# Altium integrated library OKI Microcontroller 32-Bit ARM.IntLib: 27 symbols (part 2 of 2)
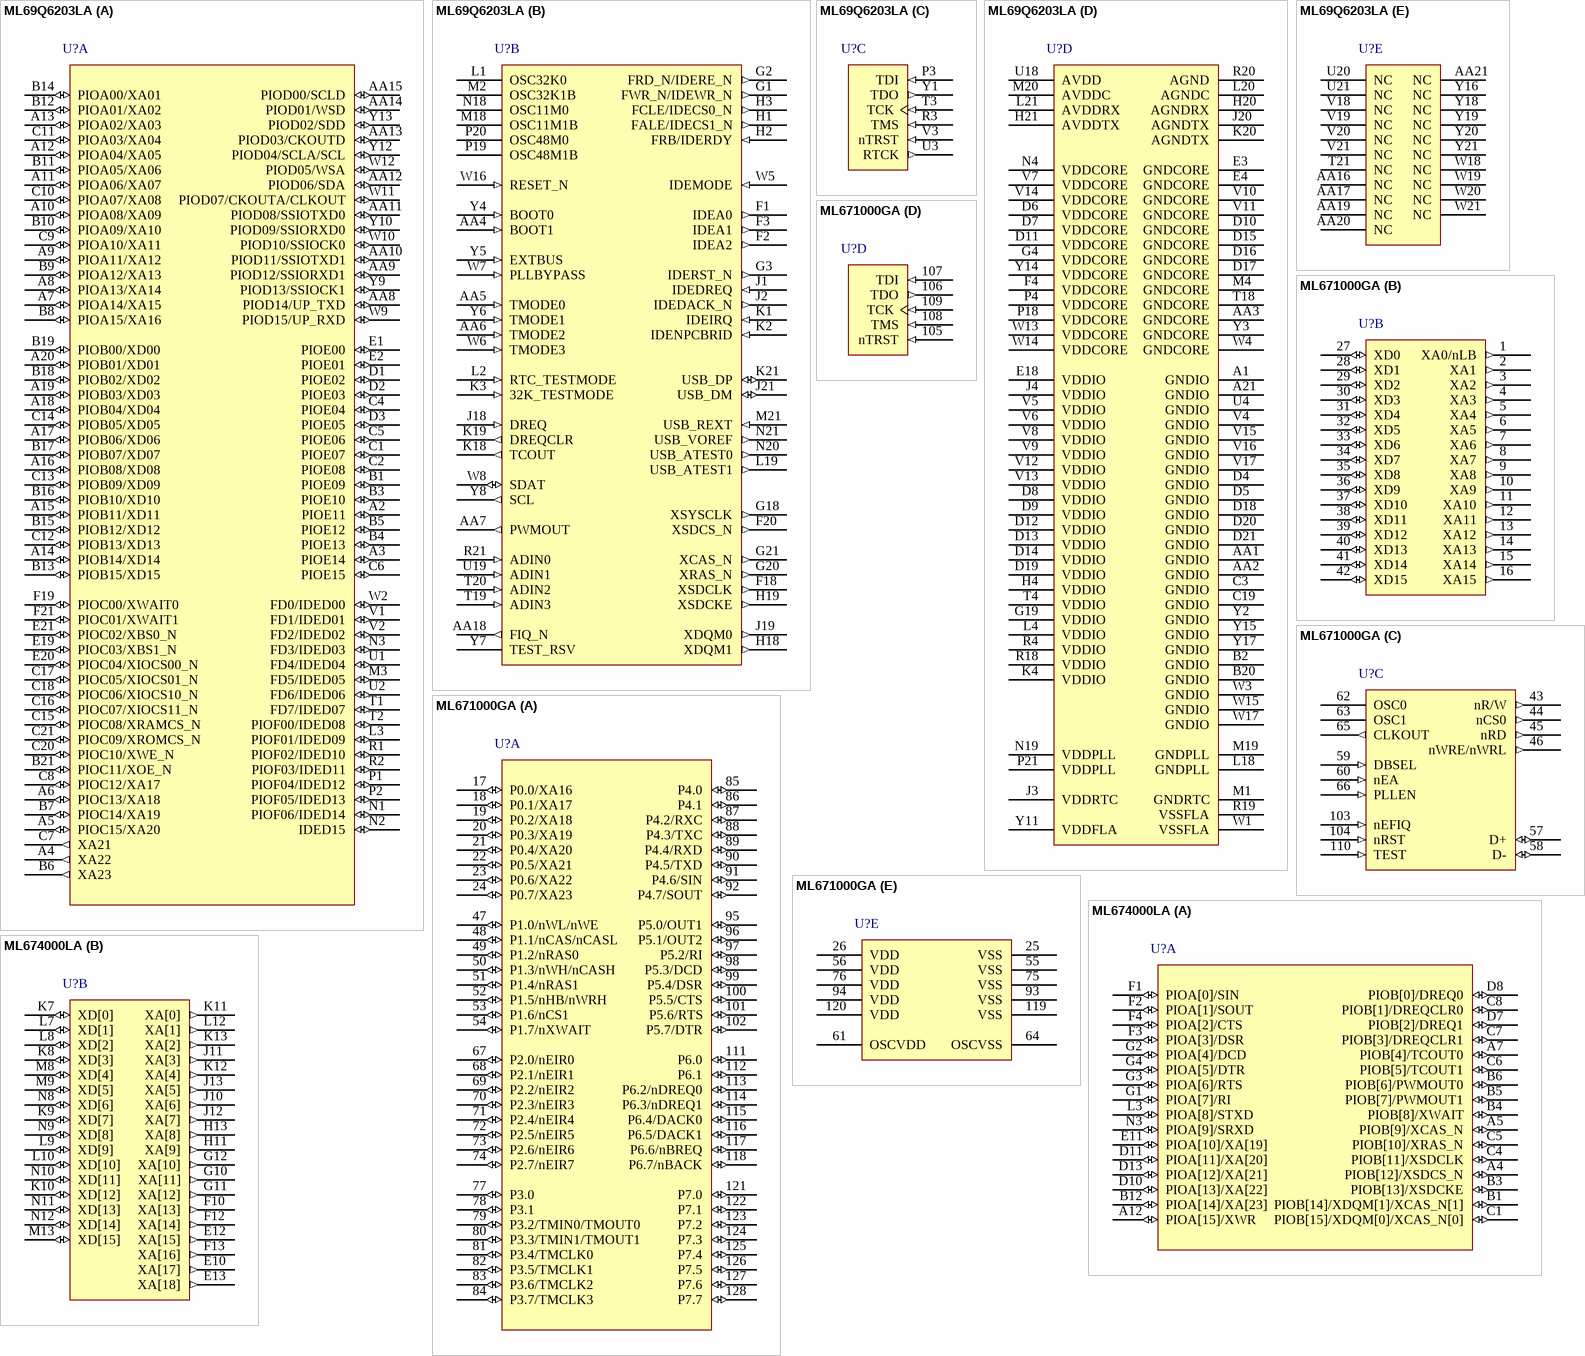
[diagram p10: symbols ML69Q6203LA to ML674000LA]

## ML69Q6203LA
designator U?
ARM7TDMI 32-Bit Microcontroller, 512KB Flash ROM, 272-pin LFBGA; Published: 12-Dec-2006; DatasheetVersion: rev1.1, Jan-2005; PackageVersion: rev1, May-2004; PackageReference: P-LFBGA272-1515-0.65-MC-1; Publisher: Altium Limited; PackageDescription: 272-Ball Ball Grid Array 0.65 mm Pitch; ComponentLink1Description: Manufacturer Link; ComponentLink1URL: http://www2.okisemi.com/; ComponentLink2Description: Datasheet; ComponentLink2URL: http://www2.okisemi.com/site/datasheets/ml696200ds
footprint P-LFBGA272-1515-0.65-MC-1 (BGA, 272-Leads, Body 15x15mm, Pitch 0.65mm)
part A pins: A2 PIOE11 (io), A3 PIOE14 (io), A4 XA22 (out), A5 PIOC15/XA20 (io), A6 PIOC13/XA18 (io), A7 PIOA14/XA15 (io), A8 PIOA13/XA14 (io), A9 PIOA11/XA12 (io), A10 PIOA08/XA09 (io), A11 PIOA06/XA07 (io), A12 PIOA04/XA05 (io), A13 PIOA02/XA03 (io), A14 PIOB14/XD14 (io), A15 PIOB11/XD11 (io), A16 PIOB08/XD08 (io), A17 PIOB06/XD06 (io), A18 PIOB04/XD04 (io), A19 PIOB03/XD03 (io), A20 PIOB01/XD01 (io), AA8 PIOD14/UP_TXD (io), AA9 PIOD12/SSIORXD1 (io), AA10 PIOD11/SSIOTXD1 (io), AA11 PIOD08/SSIOTXD0 (io), AA12 PIOD06/SDA (io), AA13 PIOD03/CKOUTD (io), AA14 PIOD01/WSD (io), AA15 PIOD00/SCLD (io), B1 PIOE09 (io), B3 PIOE10 (io), B4 PIOE13 (io), B5 PIOE12 (io), B6 XA23 (out), B7 PIOC14/XA19 (io), B8 PIOA15/XA16 (io), B9 PIOA12/XA13 (io), B10 PIOA09/XA10 (io), B11 PIOA05/XA06 (io), B12 PIOA01/XA02 (io), B13 PIOB15/XD15 (io), B14 PIOA00/XA01 (io), B15 PIOB12/XD12 (io), B16 PIOB10/XD10 (io), B17 PIOB07/XD07 (io), B18 PIOB02/XD02 (io), B19 PIOB00/XD00 (io), B21 PIOC11/XOE_N (io), C1 PIOE07 (io), C2 PIOE08 (io), C4 PIOE04 (io), C5 PIOE06 (io), C6 PIOE15 (io), C7 XA21 (out), C8 PIOC12/XA17 (io), C9 PIOA10/XA11 (io), C10 PIOA07/XA08 (io), C11 PIOA03/XA04 (io), C12 PIOB13/XD13 (io), C13 PIOB09/XD09 (io), C14 PIOB05/XD05 (io), C15 PIOC08/XRAMCS_N (io), C16 PIOC07/XIOCS11_N (io), C17 PIOC05/XIOCS01_N (io), C18 PIOC06/XIOCS10_N (io), C20 PIOC10/XWE_N (io), C21 PIOC09/XROMCS_N (io), D1 PIOE02 (io), D2 PIOE03 (io), D3 PIOE05 (io), E1 PIOE00 (io), E2 PIOE01 (io), E19 PIOC03/XBS1_N (io), E20 PIOC04/XIOCS00_N (io), E21 PIOC02/XBS0_N (io), F19 PIOC00/XWAIT0 (io), F21 PIOC01/XWAIT1 (io), L3 PIOF01/IDED09 (io), M3 FD5/IDED05 (io) "NAND Flash data", N1 PIOF06/IDED14 (io), N2 IDED15 (io), N3 FD3/IDED03 (io) "NAND Flash data", P1 PIOF04/IDED12 (io), P2 PIOF05/IDED13 (io), R1 PIOF02/IDED10 (io), R2 PIOF03/IDED11 (io), T1 FD7/IDED07 (io) "NAND Flash data", T2 PIOF00/IDED08 (io), U1 FD4/IDED04 (io) "NAND Flash data", U2 FD6/IDED06 (io) "NAND Flash data", V1 FD1/IDED01 (io) "NAND Flash data", V2 FD2/IDED02 (io) "NAND Flash data", W2 FD0/IDED00 (io) "NAND Flash data", W9 PIOD15/UP_RXD (io), W10 PIOD10/SSIOCK0 (io), W11 PIOD07/CKOUTA/CLKOUT (io), W12 PIOD05/WSA (io), Y9 PIOD13/SSIOCK1 (io), Y10 PIOD09/SSIORXD0 (io), Y12 PIOD04/SCLA/SCL (io), Y13 PIOD02/SDD (io)
part B pins: AA4 BOOT1 (in), AA5 TMODE0 (in), AA6 TMODE2 (in), AA7 PWMOUT (out), AA18 FIQ_N (out) "fast int", F1 IDEA0 (out) "ide controller", F2 IDEA2 (out) "ide controller", F3 IDEA1 (out) "ide controller", F18 XSDCLK (out), F20 XSDCS_N (out), G1 FWR_N/IDEWR_N (out) "nand flash", G2 FRD_N/IDERE_N (out) "nand flash", G3 IDERST_N (out) "ide controller", G18 XSYSCLK (out), G20 XRAS_N (out), G21 XCAS_N (out), H1 FALE/IDECS1_N (out) "nand flash", H2 FRB/IDERDY (in) "NAND Flash ready/busy (1 = ready, 0 = busy)", H3 FCLE/IDECS0_N (out) "nand flash", H18 XDQM1 (out), H19 XSDCKE (out), J1 IDEDREQ (in), J2 IDEDACK_N (out) "ide controller", J18 DREQ (in) "DMA request signal, used if DREEQ type is set by DMA controller", J19 XDQM0 (out), J21 USB_DM (io), K1 IDEIRQ (in), K2 IDENPCBRID (in), K3 32K_TESTMODE (in) "This pin switches the test mode pin of a 32-kHz oscillator circuit.", K18 TCOUT (out) "dma control", K19 DREQCLR (out) "DREQ signal clear request./ dma control", K21 USB_DP (io), L1 OSC32K0, L2 RTC_TESTMODE (in) "This pin switches the Scan mode pin of the RTC section.", L19 USB_ATEST1 (out), M2 OSC32K1B, M18 OSC11M1B, M21 USB_REXT (in), N18 OSC11M0, N20 USB_ATEST0 (out), N21 USB_VOREF (out), P19 OSC48M1B, P20 OSC48M0, R21 ADIN0 (in) "ADC input (CH3/2/1/0)", T19 ADIN3 (in) "ADC input (CH3/2/1/0)", T20 ADIN2 (in) "ADC input (CH3/2/1/0)", U19 ADIN1 (in) "ADC input (CH3/2/1/0)", W5 IDEMODE (in), W6 TMODE3 (in), W7 PLLBYPASS (in), W8 SDAT (io) "I2C transmit/receive data", W16 RESET_N (in), Y4 BOOT0 (in), Y5 EXTBUS (in) "switch between bus/gpio", Y6 TMODE1 (in), Y7 TEST_RSV, Y8 SCL (out) "I2C clock output"
part C pins: P3 TDI (in), R3 TMS (in), T3 TCK (in), U3 RTCK (out), V3 nTRST (in), Y1 TDO (out)
part D pins: A1 GNDIO (power), A21 GNDIO (power), AA1 GNDIO (power), AA2 GNDIO (power), AA3 GNDCORE (power), B2 GNDIO (power), B20 GNDIO (power), C3 GNDIO (power), C19 GNDIO (power), D4 GNDIO (power), D5 GNDIO (power), D6 VDDCORE (power), D7 VDDCORE (power), D8 VDDIO (power), D9 VDDIO (power), D10 GNDCORE (power), D11 VDDCORE (power), D12 VDDIO (power), D13 VDDIO (power), D14 VDDIO (power), D15 GNDCORE (power), D16 GNDCORE (power), D17 GNDCORE (power), D18 GNDIO (power), D19 VDDIO (power), D20 GNDIO (power), D21 GNDIO (power), E3 GNDCORE (power), E4 GNDCORE (power), E18 VDDIO (power), F4 VDDCORE (power), G4 VDDCORE (power), G19 VDDIO (power), H4 VDDIO (power), H20 AGNDRX (power), H21 AVDDTX (power), J3 VDDRTC (power), J4 VDDIO (power), J20 AGNDTX (power), K4 VDDIO (power), K20 AGNDTX (power), L4 VDDIO (power), L18 GNDPLL (power), L20 AGNDC (power), L21 AVDDRX (power), M1 GNDRTC (power), M4 GNDCORE (power), M19 GNDPLL (power), M20 AVDDC (power), N4 VDDCORE (power), N19 VDDPLL (power), P4 VDDCORE (power), P18 VDDCORE (power), P21 VDDPLL (power), R4 VDDIO (power), R18 VDDIO (power), R19 VSSFLA (power), R20 AGND (power), T4 VDDIO (power), T18 GNDCORE (power), U4 GNDIO (power), U18 AVDD (power), V4 GNDIO (power), V5 VDDIO (power), V6 VDDIO (power), V7 VDDCORE (power), V8 VDDIO (power), V9 VDDIO (power), V10 GNDCORE (power), V11 GNDCORE (power), V12 VDDIO (power), V13 VDDIO (power), V14 VDDCORE (power), V15 GNDIO (power), V16 GNDIO (power), V17 GNDIO (power), W1 VSSFLA (power), W3 GNDIO (power), W4 GNDCORE (power), W13 VDDCORE (power), W14 VDDCORE (power), W15 GNDIO (power), W17 GNDIO (power), Y2 GNDIO (power), Y3 GNDCORE (power), Y11 VDDFLA (power), Y14 VDDCORE (power), Y15 GNDIO (power), Y17 GNDIO (power)
part E pins: AA16 NC, AA17 NC, AA19 NC, AA20 NC, AA21 NC, T21 NC, U20 NC, U21 NC, V18 NC, V19 NC, V20 NC, V21 NC, W18 NC, W19 NC, W20 NC, W21 NC, Y16 NC, Y18 NC, Y19 NC, Y20 NC, Y21 NC

## ML671000GA
designator U?
ARM7TDMI 32-Bit Microcontroller, 4KB RAM, 128-Lead QFP; Published: 12-Dec-2006; DatasheetVersion: Jul-2001; PackageVersion: rev4, Nov-1996; PackageReference: QFP128-P-1420-0.50-K; Publisher: Altium Limited; PackageDescription: 128-Pin Shrink Quad Flat Pack Rectangular 0.5 mm Pitch; Code_IPC: SQFP50P1600X2200-128; ComponentLink1Description: Manufacturer Link; ComponentLink1URL: http://www2.okisemi.com/; ComponentLink2Description: Datasheet; ComponentLink2URL: http://www2.okisemi.com/site/datasheets/ml671000.pdf
footprint QFP128-P-1420-0.50-K_N (Shrink QFP, 128-Leads, Body 20x14 mm, Pitch 0.5mm, IPC Medium Density)
footprint QFP128-P-1420-0.50-K_L (Shrink QFP, 128-Leads, Body 20x14 mm, Pitch 0.5mm, IPC High Density)
footprint QFP128-P-1420-0.50-K_M (Shrink QFP, 128-Leads, Body 20x14 mm, Pitch 0.5mm, IPC Low Density)
part A pins: 17 P0.0/XA16 (io), 18 P0.1/XA17 (io), 19 P0.2/XA18 (io), 20 P0.3/XA19 (io), 21 P0.4/XA20 (io), 22 P0.5/XA21 (io), 23 P0.6/XA22 (io), 24 P0.7/XA23 (io), 47 P1.0/nWL/nWE (io), 48 P1.1/nCAS/nCASL (io), 49 P1.2/nRAS0 (io), 50 P1.3/nWH/nCASH (io), 51 P1.4/nRAS1 (io), 52 P1.5/nHB/nWRH (io), 53 P1.6/nCS1 (io), 54 P1.7/nXWAIT (io), 67 P2.0/nEIR0 (io), 68 P2.1/nEIR1 (io), 69 P2.2/nEIR2 (io), 70 P2.3/nEIR3 (io), 71 P2.4/nEIR4 (io), 72 P2.5/nEIR5 (io), 73 P2.6/nEIR6 (io), 74 P2.7/nEIR7 (io), 77 P3.0 (io), 78 P3.1 (io), 79 P3.2/TMIN0/TMOUT0 (io), 80 P3.3/TMIN1/TMOUT1 (io), 81 P3.4/TMCLK0 (io), 82 P3.5/TMCLK1 (io), 83 P3.6/TMCLK2 (io), 84 P3.7/TMCLK3 (io), 85 P4.0 (io), 86 P4.1 (io), 87 P4.2/RXC (io), 88 P4.3/TXC (io), 89 P4.4/RXD (io), 90 P4.5/TXD (io), 91 P4.6/SIN (io), 92 P4.7/SOUT (io), 95 P5.0/OUT1 (io), 96 P5.1/OUT2 (io), 97 P5.2/RI (io), 98 P5.3/DCD (io), 99 P5.4/DSR (io), 100 P5.5/CTS (io), 101 P5.6/RTS (io), 102 P5.7/DTR (io), 111 P6.0 (io), 112 P6.1 (io), 113 P6.2/nDREQ0 (io), 114 P6.3/nDREQ1 (io), 115 P6.4/DACK0 (io), 116 P6.5/DACK1 (io), 117 P6.6/nBREQ (io), 118 P6.7/nBACK (io), 121 P7.0 (io), 122 P7.1 (io), 123 P7.2 (io), 124 P7.3 (io), 125 P7.4 (io), 126 P7.5 (io), 127 P7.6 (io), 128 P7.7 (io)
part B pins: 1 XA0/nLB (out), 2 XA1 (out), 3 XA2 (out), 4 XA3 (out), 5 XA4 (out), 6 XA5 (out), 7 XA6 (out), 8 XA7 (out), 9 XA8 (out), 10 XA9 (out), 11 XA10 (out), 12 XA11 (out), 13 XA12 (out), 14 XA13 (out), 15 XA14 (out), 16 XA15 (out), 27 XD0 (io), 28 XD1 (io), 29 XD2 (io), 30 XD3 (io), 31 XD4 (io), 32 XD5 (io), 33 XD6 (io), 34 XD7 (io), 35 XD8 (io), 36 XD9 (io), 37 XD10 (io), 38 XD11 (io), 39 XD12 (io), 40 XD13 (io), 41 XD14 (io), 42 XD15 (io)
part C pins: 43 nR/W (out), 44 nCS0 (out), 45 nRD (out), 46 nWRE/nWRL (out), 57 D+ (io), 58 D- (io), 59 DBSEL (in), 60 nEA (in), 62 OSC0, 63 OSC1, 65 CLKOUT (out), 66 PLLEN (in), 103 nEFIQ (in), 104 nRST (in), 110 TEST (in)
part D pins: 105 nTRST (in), 106 TDO (out), 107 TDI (in), 108 TMS (in), 109 TCK (in)
part E pins: 25 VSS (power), 26 VDD (power), 55 VSS (power), 56 VDD (power), 61 OSCVDD (power), 64 OSCVSS (power), 75 VSS (power), 76 VDD (power), 93 VSS (power), 94 VDD (power), 119 VSS (power), 120 VDD (power)

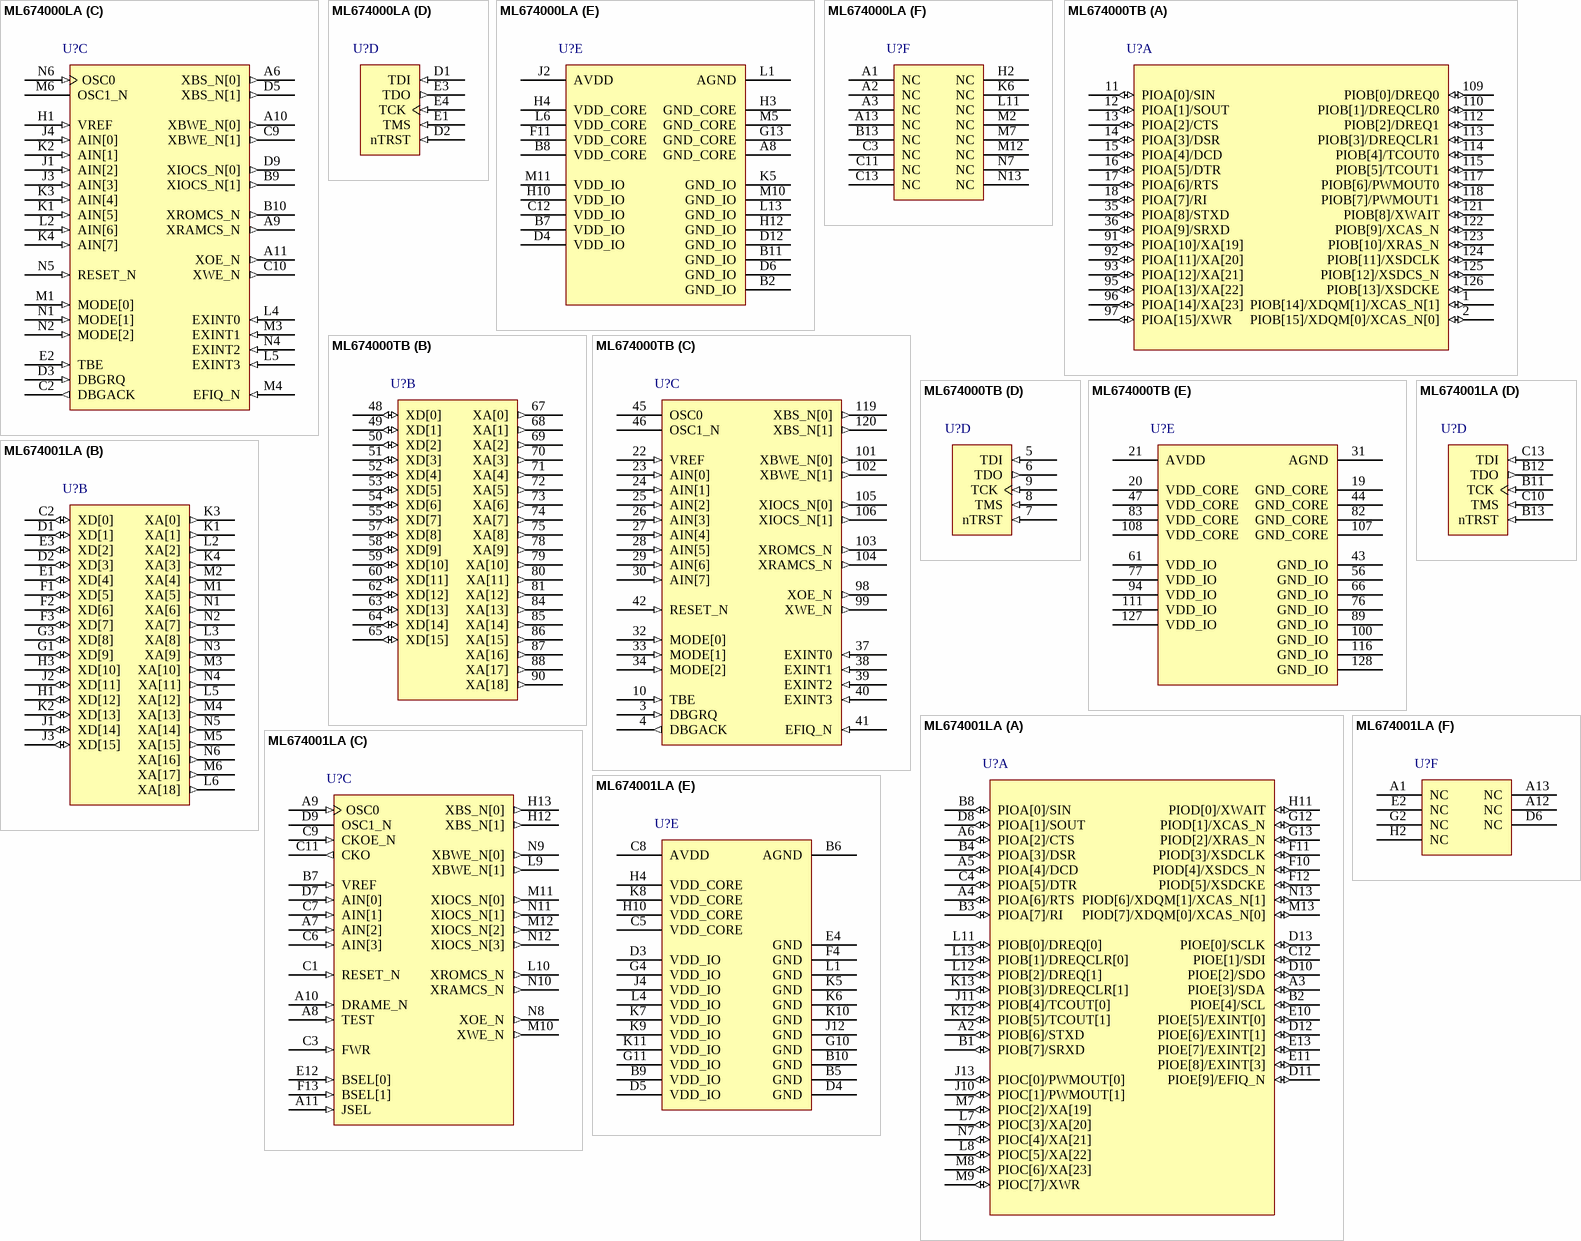
[diagram p6: symbols ML674000LA to ML674001LA]

## ML674000LA
designator U?
ARM7TDMI 32-Bit Microcontroller, 8KB SRAM, 144-pin LFBGA; Published: 12-Dec-2006; DatasheetVersion: Dec-2002; PackageVersion: Apr-2004; PackageReference: P-L-FBGA144-1111-0.80; Publisher: Altium Limited; PackageDescription: 144-Ball Plastic Ball Grid Array 0.8 mm Pitch; ComponentLink1Description: Manufacturer Link; ComponentLink1URL: http://www2.okisemi.com/; ComponentLink2Description: Datasheet; ComponentLink2URL: http://www2.okisemi.com/site/datasheets/ml674000ds.pdf
footprint P-L-FBGA144-1111-0.80 (BGA, 144-Leads, Body 11x11mm, Pitch 0.8mm)
part A pins: A4 PIOB[12]/XSDCS_N (io), A5 PIOB[9]/XCAS_N (io), A7 PIOB[4]/TCOUT0 (io), A12 PIOA[15]/XWR (io), B1 PIOB[14]/XDQM[1]/XCAS_N[1] (io), B3 PIOB[13]/XSDCKE (io), B4 PIOB[8]/XWAIT (io), B5 PIOB[7]/PWMOUT1 (io), B6 PIOB[6]/PWMOUT0 (io), B12 PIOA[14]/XA[23] (io), C1 PIOB[15]/XDQM[0]/XCAS_N[0] (io), C4 PIOB[11]/XSDCLK (io), C5 PIOB[10]/XRAS_N (io), C6 PIOB[5]/TCOUT1 (io), C7 PIOB[3]/DREQCLR1 (io), C8 PIOB[1]/DREQCLR0 (io), D7 PIOB[2]/DREQ1 (io), D8 PIOB[0]/DREQ0 (io), D10 PIOA[13]/XA[22] (io), D11 PIOA[11]/XA[20] (io), D13 PIOA[12]/XA[21] (io), E11 PIOA[10]/XA[19] (io), F1 PIOA[0]/SIN (io), F2 PIOA[1]/SOUT (io), F3 PIOA[3]/DSR (io), F4 PIOA[2]/CTS (io), G1 PIOA[7]/RI (io), G2 PIOA[4]/DCD (io), G3 PIOA[6]/RTS (io), G4 PIOA[5]/DTR (io), L3 PIOA[8]/STXD (io), N3 PIOA[9]/SRXD (io)
part B pins: E10 XA[17] (out), E12 XA[15] (out), E13 XA[18] (out), F10 XA[13] (out), F12 XA[14] (out), F13 XA[16] (out), G10 XA[11] (out), G11 XA[12] (out), G12 XA[10] (out), H11 XA[9] (out), H13 XA[8] (out), J10 XA[6] (out), J11 XA[3] (out), J12 XA[7] (out), J13 XA[5] (out), K7 XD[0] (io), K8 XD[3] (io), K9 XD[7] (io), K10 XD[12] (io), K11 XA[0] (out), K12 XA[4] (out), K13 XA[2] (out), L7 XD[1] (io), L8 XD[2] (io), L9 XD[9] (io), L10 XD[10] (io), L12 XA[1] (out), M8 XD[4] (io), M9 XD[5] (io), M13 XD[15] (io), N8 XD[6] (io), N9 XD[8] (io), N10 XD[11] (io), N11 XD[13] (io), N12 XD[14] (io)
part C pins: A6 XBS_N[0] (out), A9 XRAMCS_N (out), A10 XBWE_N[0] (out), A11 XOE_N (out), B9 XIOCS_N[1] (out), B10 XROMCS_N (out), C2 DBGACK (out), C9 XBWE_N[1] (out), C10 XWE_N (out), D3 DBGRQ (in), D5 XBS_N[1] (out), D9 XIOCS_N[0] (out), E2 TBE (in), H1 VREF (in), J1 AIN[2] (in), J3 AIN[3] (in), J4 AIN[0] (in), K1 AIN[5] (in), K2 AIN[1] (in), K3 AIN[4] (in), K4 AIN[7] (in), L2 AIN[6] (in), L4 EXINT0 (in), L5 EXINT3 (in), M1 MODE[0] (in), M3 EXINT1 (in), M4 EFIQ_N (in), M6 OSC1_N, N1 MODE[1] (in), N2 MODE[2] (in), N4 EXINT2 (in), N5 RESET_N (in), N6 OSC0 (in)
part D pins: D1 TDI (in), D2 nTRST (in), E1 TMS (in), E3 TDO (out), E4 TCK (in)
part E pins: A8 GND_CORE (power), B2 GND_IO (power), B7 VDD_IO (power), B8 VDD_CORE (power), B11 GND_IO (power), C12 VDD_IO (power), D4 VDD_IO (power), D6 GND_IO (power), D12 GND_IO (power), F11 VDD_CORE (power), G13 GND_CORE (power), H3 GND_CORE (power), H4 VDD_CORE (power), H10 VDD_IO (power), H12 GND_IO (power), J2 AVDD (power), K5 GND_IO (power), L1 AGND (power), L6 VDD_CORE (power), L13 GND_IO (power), M5 GND_CORE (power), M10 GND_IO (power), M11 VDD_IO (power)
part F pins: A1 NC, A2 NC, A3 NC, A13 NC, B13 NC, C3 NC, C11 NC, C13 NC, H2 NC, K6 NC, L11 NC, M2 NC, M7 NC, M12 NC, N7 NC, N13 NC

## ML674000TB
designator U?
ARM7TDMI 32-Bit Microcontroller, 8KB SRAM, 128-pin TQFP; Published: 12-Dec-2006; DatasheetVersion: Dec-2002; PackageVersion: rev1, Nov-1999; PackageReference: TQFP128-P-1414-0.40-K; Publisher: Altium Limited; PackageDescription: 128-Pin Thin Quad Flat Pack 0.4 mm Pitch; ComponentLink1Description: Manufacturer Link; ComponentLink1URL: http://www2.okisemi.com/; ComponentLink2Description: Datasheet; ComponentLink2URL: http://www2.okisemi.com/site/datasheets/ml674000ds.pdf
footprint TQFP128-P-1414-0.40-K_N (Thin QFP, 128-Leads, Body 14x14mm, Pitch 0.4mm, IPC Medium Density)
footprint TQFP128-P-1414-0.40-K_L (Thin QFP, 128-Leads, Body 14x14mm, Pitch 0.4mm, IPC High Density)
footprint TQFP128-P-1414-0.40-K_M (Thin QFP, 128-Leads, Body 14x14mm, Pitch 0.4mm, IPC Low Density)
part A pins: 1 PIOB[14]/XDQM[1]/XCAS_N[1] (io), 2 PIOB[15]/XDQM[0]/XCAS_N[0] (io), 11 PIOA[0]/SIN (io), 12 PIOA[1]/SOUT (io), 13 PIOA[2]/CTS (io), 14 PIOA[3]/DSR (io), 15 PIOA[4]/DCD (io), 16 PIOA[5]/DTR (io), 17 PIOA[6]/RTS (io), 18 PIOA[7]/RI (io), 35 PIOA[8]/STXD (io), 36 PIOA[9]/SRXD (io), 91 PIOA[10]/XA[19] (io), 92 PIOA[11]/XA[20] (io), 93 PIOA[12]/XA[21] (io), 95 PIOA[13]/XA[22] (io), 96 PIOA[14]/XA[23] (io), 97 PIOA[15]/XWR (io), 109 PIOB[0]/DREQ0 (io), 110 PIOB[1]/DREQCLR0 (io), 112 PIOB[2]/DREQ1 (io), 113 PIOB[3]/DREQCLR1 (io), 114 PIOB[4]/TCOUT0 (io), 115 PIOB[5]/TCOUT1 (io), 117 PIOB[6]/PWMOUT0 (io), 118 PIOB[7]/PWMOUT1 (io), 121 PIOB[8]/XWAIT (io), 122 PIOB[9]/XCAS_N (io), 123 PIOB[10]/XRAS_N (io), 124 PIOB[11]/XSDCLK (io), 125 PIOB[12]/XSDCS_N (io), 126 PIOB[13]/XSDCKE (io)
part B pins: 48 XD[0] (io), 49 XD[1] (io), 50 XD[2] (io), 51 XD[3] (io), 52 XD[4] (io), 53 XD[5] (io), 54 XD[6] (io), 55 XD[7] (io), 57 XD[8] (io), 58 XD[9] (io), 59 XD[10] (io), 60 XD[11] (io), 62 XD[12] (io), 63 XD[13] (io), 64 XD[14] (io), 65 XD[15] (io), 67 XA[0] (out), 68 XA[1] (out), 69 XA[2] (out), 70 XA[3] (out), 71 XA[4] (out), 72 XA[5] (out), 73 XA[6] (out), 74 XA[7] (out), 75 XA[8] (out), 78 XA[9] (out), 79 XA[10] (out), 80 XA[11] (out), 81 XA[12] (out), 84 XA[13] (out), 85 XA[14] (out), 86 XA[15] (out), 87 XA[16] (out), 88 XA[17] (out), 90 XA[18] (out)
part C pins: 3 DBGRQ (in), 4 DBGACK (out), 10 TBE (in), 22 VREF (in), 23 AIN[0] (in), 24 AIN[1] (in), 25 AIN[2] (in), 26 AIN[3] (in), 27 AIN[4] (in), 28 AIN[5] (in), 29 AIN[6] (in), 30 AIN[7] (in), 32 MODE[0] (in), 33 MODE[1] (in), 34 MODE[2] (in), 37 EXINT0 (in), 38 EXINT1 (in), 39 EXINT2 (in), 40 EXINT3 (in), 41 EFIQ_N (in), 42 RESET_N (in), 45 OSC0, 46 OSC1_N, 98 XOE_N (out), 99 XWE_N (out), 101 XBWE_N[0] (out), 102 XBWE_N[1] (out), 103 XROMCS_N (out), 104 XRAMCS_N (out), 105 XIOCS_N[0] (out), 106 XIOCS_N[1] (out), 119 XBS_N[0] (out), 120 XBS_N[1] (out)
part D pins: 5 TDI (in), 6 TDO (out), 7 nTRST (in), 8 TMS (in), 9 TCK (in)
part E pins: 19 GND_CORE (power), 20 VDD_CORE (power), 21 AVDD (power), 31 AGND (power), 43 GND_IO (power), 44 GND_CORE (power), 47 VDD_CORE (power), 56 GND_IO (power), 61 VDD_IO (power), 66 GND_IO (power), 76 GND_IO (power), 77 VDD_IO (power), 82 GND_CORE (power), 83 VDD_CORE (power), 89 GND_IO (power), 94 VDD_IO (power), 100 GND_IO (power), 107 GND_CORE (power), 108 VDD_CORE (power), 111 VDD_IO (power), 116 GND_IO (power), 127 VDD_IO (power), 128 GND_IO (power)

## ML674001LA
designator U?
ARM7TDMI 32-Bit Microcontroller, ROM-less, 144-pin LFBGA; Published: 18-Aug-2005; LatestRevisionDate: 12-Dec-2006; LatestRevisionNote: Changed Sch Layout.; DatasheetVersion: rev2.0, Apr-2004; PackageVersion: Apr-2004; PackageReference: P-L-FBGA144-1111-0.80; Publisher: Altium Limited; PackageDescription: 144-Ball Plastic Ball Grid Array 0.8 mm Pitch; ComponentLink1Description: Manufacturer Link; ComponentLink1URL: http://www2.okisemi.com/; ComponentLink2Description: Datasheet; ComponentLink2URL: http://www2.okisemi.com/site/datasheets/ML674001_2_3_DS.pdf
footprint P-L-FBGA144-1111-0.80 (BGA, 144-Leads, Body 11x11mm, Pitch 0.8mm)
3D model ML674001-BGA144 (144-Ball Plastic Ball Grid Array 0.8 mm Pitch)
part A pins: A2 PIOB[6]/STXD (io), A3 PIOE[3]/SDA (io), A4 PIOA[6]/RTS (io), A5 PIOA[4]/DCD (io), A6 PIOA[2]/CTS (io), B1 PIOB[7]/SRXD (io), B2 PIOE[4]/SCL (io), B3 PIOA[7]/RI (io), B4 PIOA[3]/DSR (io), B8 PIOA[0]/SIN (io), C4 PIOA[5]/DTR (io), C12 PIOE[1]/SDI (io), D8 PIOA[1]/SOUT (io), D10 PIOE[2]/SDO (io), D11 PIOE[9]/EFIQ_N (io), D12 PIOE[6]/EXINT[1] (io), D13 PIOE[0]/SCLK (io), E10 PIOE[5]/EXINT[0] (io), E11 PIOE[8]/EXINT[3] (io), E13 PIOE[7]/EXINT[2] (io), F10 PIOD[4]/XSDCS_N (io), F11 PIOD[3]/XSDCLK (io), F12 PIOD[5]/XSDCKE (io), G12 PIOD[1]/XCAS_N (io), G13 PIOD[2]/XRAS_N (io), H11 PIOD[0]/XWAIT (io), J10 PIOC[1]/PWMOUT[1] (io), J11 PIOB[4]/TCOUT[0] (io), J13 PIOC[0]/PWMOUT[0] (io), K12 PIOB[5]/TCOUT[1] (io), K13 PIOB[3]/DREQCLR[1] (io), L7 PIOC[3]/XA[20] (io), L8 PIOC[5]/XA[22] (io), L11 PIOB[0]/DREQ[0] (io), L12 PIOB[2]/DREQ[1] (io), L13 PIOB[1]/DREQCLR[0] (io), M7 PIOC[2]/XA[19] (io), M8 PIOC[6]/XA[23] (io), M9 PIOC[7]/XWR (io), M13 PIOD[7]/XDQM[0]/XCAS_N[0] (io), N7 PIOC[4]/XA[21] (io), N13 PIOD[6]/XDQM[1]/XCAS_N[1] (io)
part B pins: C2 XD[0] (io), D1 XD[1] (io), D2 XD[3] (io), E1 XD[4] (io), E3 XD[2] (io), F1 XD[5] (io), F2 XD[6] (io), F3 XD[7] (io), G1 XD[9] (io), G3 XD[8] (io), H1 XD[12] (io), H3 XD[10] (io), J1 XD[14] (io), J2 XD[11] (io), J3 XD[15] (io), K1 XA[1] (out), K2 XD[13] (io), K3 XA[0] (out), K4 XA[3] (out), L2 XA[2] (out), L3 XA[8] (out), L5 XA[12] (out), L6 XA[18] (out), M1 XA[5] (out), M2 XA[4] (out), M3 XA[10] (out), M4 XA[13] (out), M5 XA[15] (out), M6 XA[17] (out), N1 XA[6] (out), N2 XA[7] (out), N3 XA[9] (out), N4 XA[11] (out), N5 XA[14] (out), N6 XA[16] (out)
part C pins: A7 AIN[2] (in), A8 TEST (in), A9 OSC0 (in), A10 DRAME_N (in), A11 JSEL (in), B7 VREF (in), C1 RESET_N (in), C3 FWR (in), C6 AIN[3] (in), C7 AIN[1] (in), C9 CKOE_N (in), C11 CKO (out), D7 AIN[0] (in), D9 OSC1_N, E12 BSEL[0] (in), F13 BSEL[1] (in), H12 XBS_N[1] (out), H13 XBS_N[0] (out), L9 XBWE_N[1] (out), L10 XROMCS_N (out), M10 XWE_N (out), M11 XIOCS_N[0] (out), M12 XIOCS_N[2] (out), N8 XOE_N (out), N9 XBWE_N[0] (out), N10 XRAMCS_N (out), N11 XIOCS_N[1] (out), N12 XIOCS_N[3] (out)
part D pins: B11 TCK (in), B12 TDO (out), B13 nTRST (in), C10 TMS (in), C13 TDI (in)
part E pins: B5 GND (power), B6 AGND (power), B9 VDD_IO (power), B10 GND (power), C5 VDD_CORE (power), C8 AVDD (power), D3 VDD_IO (power), D4 GND (power), D5 VDD_IO (power), E4 GND (power), F4 GND (power), G4 VDD_IO (power), G10 GND (power), G11 VDD_IO (power), H4 VDD_CORE (power), H10 VDD_CORE (power), J4 VDD_IO (power), J12 GND (power), K5 GND (power), K6 GND (power), K7 VDD_IO (power), K8 VDD_CORE (power), K9 VDD_IO (power), K10 GND (power), K11 VDD_IO (power), L1 GND (power), L4 VDD_IO (power)
part F pins: A1 NC, A12 NC, A13 NC, D6 NC, E2 NC, G2 NC, H2 NC

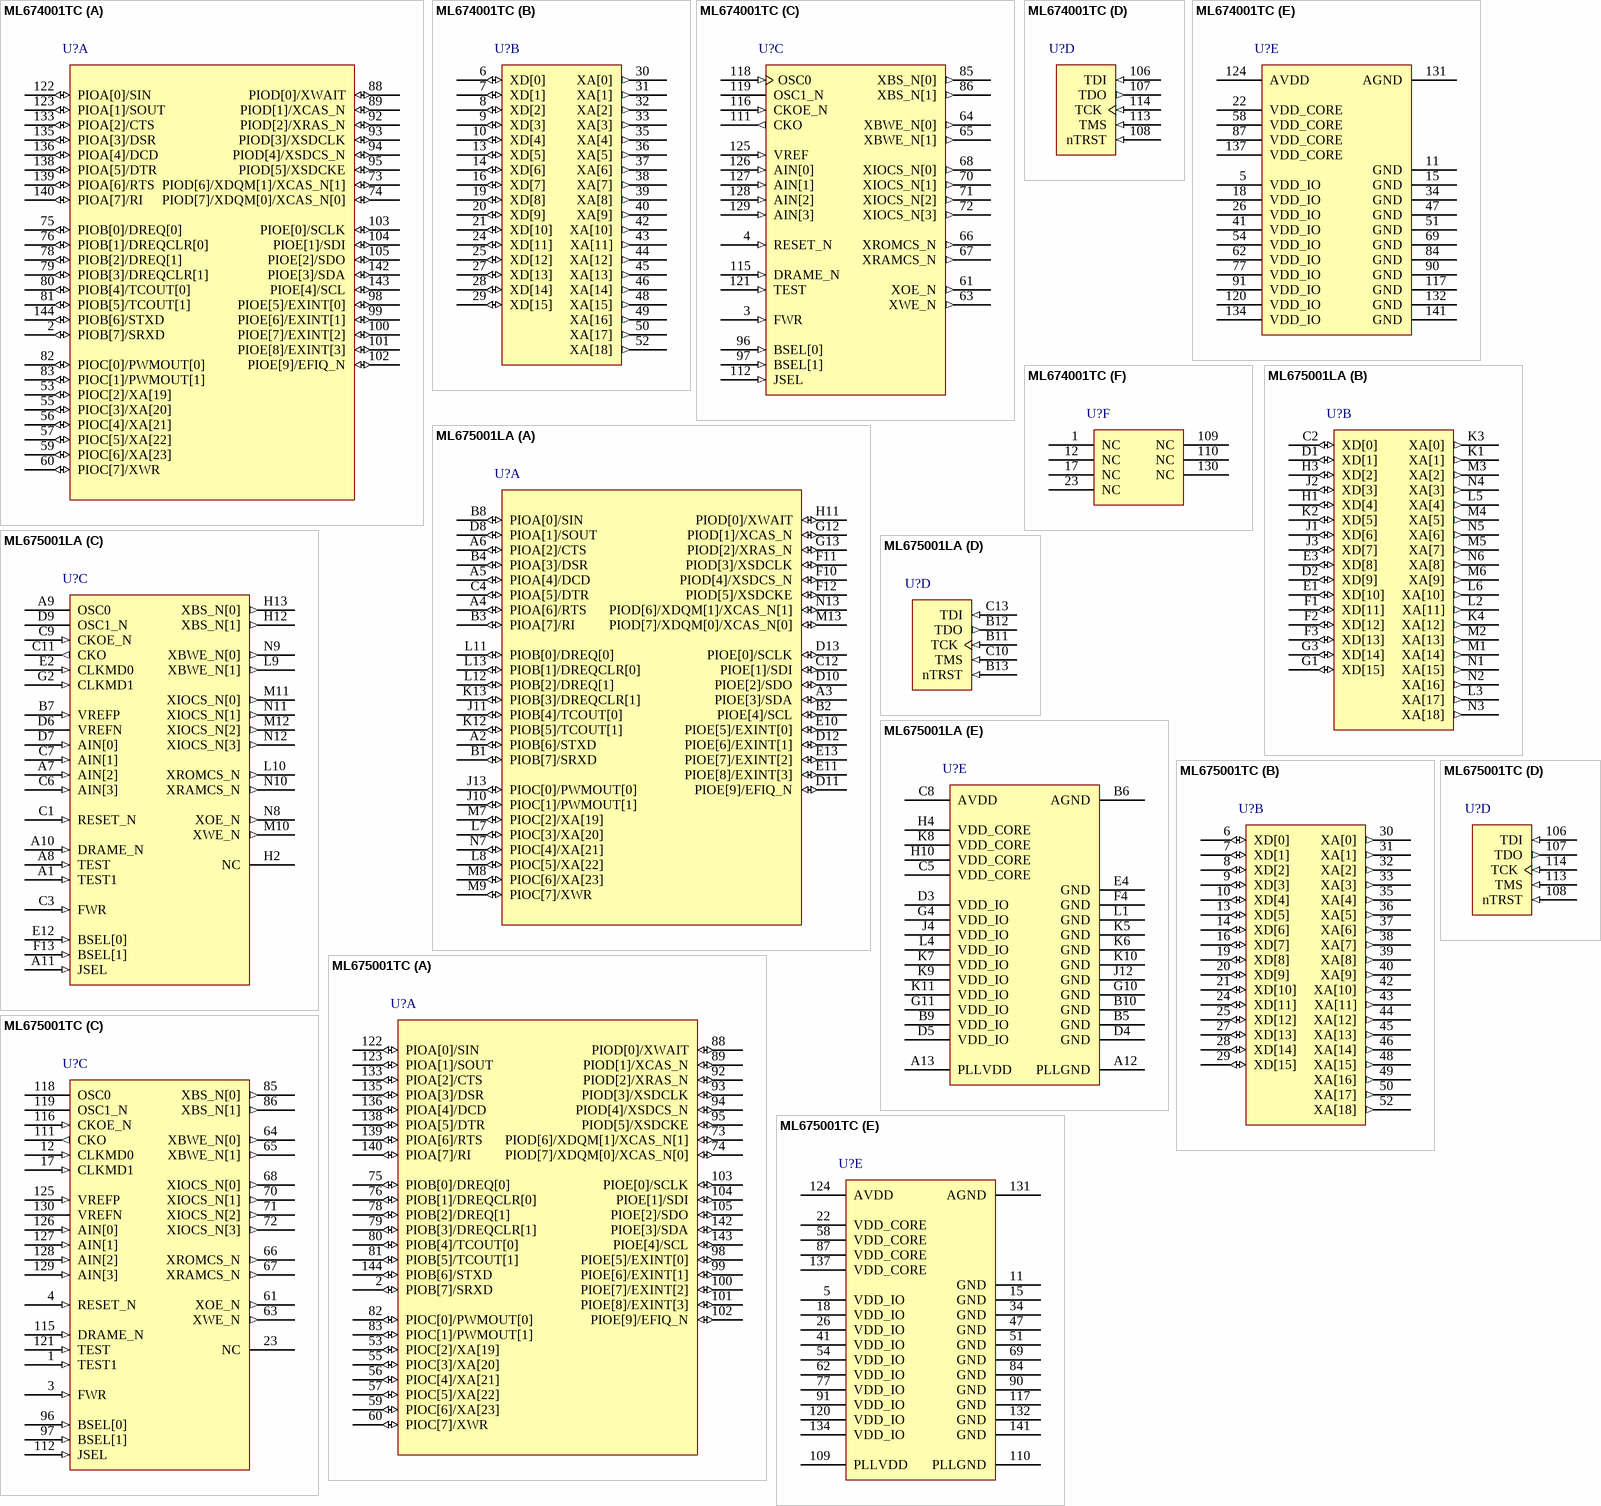
[diagram p7: symbols ML674001TC to ML675001TC]

## ML674001TC
designator U?
ARM7TDMI 32-Bit Microcontroller, ROM-less, ?144-pin LQFP; Published: 18-Aug-2005; LatestRevisionDate: 12-Dec-2006; LatestRevisionNote: Changed Sch Layout.; DatasheetVersion: rev2.0, Apr-2004; PackageVersion: rev5, Nov-1996; PackageReference: LQFP144-P-2020-0.50-K; Publisher: Altium Limited; PackageDescription: 144-Pin Plastic Shrink Quad Flat Pack 0.5 mm Pitch; Code_IPC: SQFP50P2200X2200-144; ComponentLink1Description: Manufacturer Link; ComponentLink1URL: http://www2.okisemi.com/; ComponentLink2Description: Datasheet; ComponentLink2URL: http://www2.okisemi.com/site/datasheets/ML674001_2_3_DS.pdf
footprint LQFP144-P-2020-0.50-K_N (Shrink QFP, 144-Leads, Body 20x20mm, Pitch 0.5mm, IPC Medium Density)
footprint LQFP144-P-2020-0.50-K_L (Shrink QFP, 144-Leads, Body 20x20mm, Pitch 0.5mm, IPC High Density)
footprint LQFP144-P-2020-0.50-K_M (Shrink QFP, 144-Leads, Body 20x20mm, Pitch 0.5mm, IPC Low Density)
3D model ML674001-QFP144 (144-Pin Plastic Shrink Quad Flat Pack 0.5 mm Pitch)
part A pins: 2 PIOB[7]/SRXD (io), 53 PIOC[2]/XA[19] (io), 55 PIOC[3]/XA[20] (io), 56 PIOC[4]/XA[21] (io), 57 PIOC[5]/XA[22] (io), 59 PIOC[6]/XA[23] (io), 60 PIOC[7]/XWR (io), 73 PIOD[6]/XDQM[1]/XCAS_N[1] (io), 74 PIOD[7]/XDQM[0]/XCAS_N[0] (io), 75 PIOB[0]/DREQ[0] (io), 76 PIOB[1]/DREQCLR[0] (io), 78 PIOB[2]/DREQ[1] (io), 79 PIOB[3]/DREQCLR[1] (io), 80 PIOB[4]/TCOUT[0] (io), 81 PIOB[5]/TCOUT[1] (io), 82 PIOC[0]/PWMOUT[0] (io), 83 PIOC[1]/PWMOUT[1] (io), 88 PIOD[0]/XWAIT (io), 89 PIOD[1]/XCAS_N (io), 92 PIOD[2]/XRAS_N (io), 93 PIOD[3]/XSDCLK (io), 94 PIOD[4]/XSDCS_N (io), 95 PIOD[5]/XSDCKE (io), 98 PIOE[5]/EXINT[0] (io), 99 PIOE[6]/EXINT[1] (io), 100 PIOE[7]/EXINT[2] (io), 101 PIOE[8]/EXINT[3] (io), 102 PIOE[9]/EFIQ_N (io), 103 PIOE[0]/SCLK (io), 104 PIOE[1]/SDI (io), 105 PIOE[2]/SDO (io), 122 PIOA[0]/SIN (io), 123 PIOA[1]/SOUT (io), 133 PIOA[2]/CTS (io), 135 PIOA[3]/DSR (io), 136 PIOA[4]/DCD (io), 138 PIOA[5]/DTR (io), 139 PIOA[6]/RTS (io), 140 PIOA[7]/RI (io), 142 PIOE[3]/SDA (io), 143 PIOE[4]/SCL (io), 144 PIOB[6]/STXD (io)
part B pins: 6 XD[0] (io), 7 XD[1] (io), 8 XD[2] (io), 9 XD[3] (io), 10 XD[4] (io), 13 XD[5] (io), 14 XD[6] (io), 16 XD[7] (io), 19 XD[8] (io), 20 XD[9] (io), 21 XD[10] (io), 24 XD[11] (io), 25 XD[12] (io), 27 XD[13] (io), 28 XD[14] (io), 29 XD[15] (io), 30 XA[0] (out), 31 XA[1] (out), 32 XA[2] (out), 33 XA[3] (out), 35 XA[4] (out), 36 XA[5] (out), 37 XA[6] (out), 38 XA[7] (out), 39 XA[8] (out), 40 XA[9] (out), 42 XA[10] (out), 43 XA[11] (out), 44 XA[12] (out), 45 XA[13] (out), 46 XA[14] (out), 48 XA[15] (out), 49 XA[16] (out), 50 XA[17] (out), 52 XA[18] (out)
part C pins: 3 FWR (in), 4 RESET_N (in), 61 XOE_N (out), 63 XWE_N (out), 64 XBWE_N[0] (out), 65 XBWE_N[1] (out), 66 XROMCS_N (out), 67 XRAMCS_N (out), 68 XIOCS_N[0] (out), 70 XIOCS_N[1] (out), 71 XIOCS_N[2] (out), 72 XIOCS_N[3] (out), 85 XBS_N[0] (out), 86 XBS_N[1] (out), 96 BSEL[0] (in), 97 BSEL[1] (in), 111 CKO (out), 112 JSEL (in), 115 DRAME_N (in), 116 CKOE_N (in), 118 OSC0 (in), 119 OSC1_N, 121 TEST (in), 125 VREF (in), 126 AIN[0] (in), 127 AIN[1] (in), 128 AIN[2] (in), 129 AIN[3] (in)
part D pins: 106 TDI (in), 107 TDO (out), 108 nTRST (in), 113 TMS (in), 114 TCK (in)
part E pins: 5 VDD_IO (power), 11 GND (power), 15 GND (power), 18 VDD_IO (power), 22 VDD_CORE (power), 26 VDD_IO (power), 34 GND (power), 41 VDD_IO (power), 47 GND (power), 51 GND (power), 54 VDD_IO (power), 58 VDD_CORE (power), 62 VDD_IO (power), 69 GND (power), 77 VDD_IO (power), 84 GND (power), 87 VDD_CORE (power), 90 GND (power), 91 VDD_IO (power), 117 GND (power), 120 VDD_IO (power), 124 AVDD (power), 131 AGND (power), 132 GND (power), 134 VDD_IO (power), 137 VDD_CORE (power), 141 GND (power)
part F pins: 1 NC, 12 NC, 17 NC, 23 NC, 109 NC, 110 NC, 130 NC

## ML675001LA
designator U?
ARM7TDMI 32-Bit Microcontroller, ROM-less, 144-pin LFBGA; Published: 12-Dec-2006; DatasheetVersion: rev2.0, Apr-2004; PackageVersion: Apr-2004; PackageReference: P-L-FBGA144-1111-0.80; Publisher: Altium Limited; PackageDescription: 144-Ball Plastic Ball Grid Array 0.8 mm Pitch; ComponentLink1Description: Manufacturer Link; ComponentLink1URL: http://www2.okisemi.com/; ComponentLink2Description: Datasheet; ComponentLink2URL: http://www2.okisemi.com/site/datasheets/ML675001_2_3_DS.pdf
footprint P-L-FBGA144-1111-0.80 (BGA, 144-Leads, Body 11x11mm, Pitch 0.8mm)
part A pins: A2 PIOB[6]/STXD (io), A3 PIOE[3]/SDA (io), A4 PIOA[6]/RTS (io), A5 PIOA[4]/DCD (io), A6 PIOA[2]/CTS (io), B1 PIOB[7]/SRXD (io), B2 PIOE[4]/SCL (io), B3 PIOA[7]/RI (io), B4 PIOA[3]/DSR (io), B8 PIOA[0]/SIN (io), C4 PIOA[5]/DTR (io), C12 PIOE[1]/SDI (io), D8 PIOA[1]/SOUT (io), D10 PIOE[2]/SDO (io), D11 PIOE[9]/EFIQ_N (io), D12 PIOE[6]/EXINT[1] (io), D13 PIOE[0]/SCLK (io), E10 PIOE[5]/EXINT[0] (io), E11 PIOE[8]/EXINT[3] (io), E13 PIOE[7]/EXINT[2] (io), F10 PIOD[4]/XSDCS_N (io), F11 PIOD[3]/XSDCLK (io), F12 PIOD[5]/XSDCKE (io), G12 PIOD[1]/XCAS_N (io), G13 PIOD[2]/XRAS_N (io), H11 PIOD[0]/XWAIT (io), J10 PIOC[1]/PWMOUT[1] (io), J11 PIOB[4]/TCOUT[0] (io), J13 PIOC[0]/PWMOUT[0] (io), K12 PIOB[5]/TCOUT[1] (io), K13 PIOB[3]/DREQCLR[1] (io), L7 PIOC[3]/XA[20] (io), L8 PIOC[5]/XA[22] (io), L11 PIOB[0]/DREQ[0] (io), L12 PIOB[2]/DREQ[1] (io), L13 PIOB[1]/DREQCLR[0] (io), M7 PIOC[2]/XA[19] (io), M8 PIOC[6]/XA[23] (io), M9 PIOC[7]/XWR (io), M13 PIOD[7]/XDQM[0]/XCAS_N[0] (io), N7 PIOC[4]/XA[21] (io), N13 PIOD[6]/XDQM[1]/XCAS_N[1] (io)
part B pins: C2 XD[0] (io), D1 XD[1] (io), D2 XD[9] (io), E1 XD[10] (io), E3 XD[8] (io), F1 XD[11] (io), F2 XD[12] (io), F3 XD[13] (io), G1 XD[15] (io), G3 XD[14] (io), H1 XD[4] (io), H3 XD[2] (io), J1 XD[6] (io), J2 XD[3] (io), J3 XD[7] (io), K1 XA[1] (out), K2 XD[5] (io), K3 XA[0] (out), K4 XA[12] (out), L2 XA[11] (out), L3 XA[17] (out), L5 XA[4] (out), L6 XA[10] (out), M1 XA[14] (out), M2 XA[13] (out), M3 XA[2] (out), M4 XA[5] (out), M5 XA[7] (out), M6 XA[9] (out), N1 XA[15] (out), N2 XA[16] (out), N3 XA[18] (out), N4 XA[3] (out), N5 XA[6] (out), N6 XA[8] (out)
part C pins: A1 TEST1 (in), A7 AIN[2] (in), A8 TEST (in), A9 OSC0, A10 DRAME_N (in), A11 JSEL (in), B7 VREFP (in), C1 RESET_N (in), C3 FWR (in), C6 AIN[3] (in), C7 AIN[1] (in), C9 CKOE_N (in), C11 CKO (out), D6 VREFN (power), D7 AIN[0] (in), D9 OSC1_N, E2 CLKMD0 (in), E12 BSEL[0] (in), F13 BSEL[1] (in), G2 CLKMD1 (in), H2 NC, H12 XBS_N[1] (out), H13 XBS_N[0] (out), L9 XBWE_N[1] (out), L10 XROMCS_N (out), M10 XWE_N (out), M11 XIOCS_N[0] (out), M12 XIOCS_N[2] (out), N8 XOE_N (out), N9 XBWE_N[0] (out), N10 XRAMCS_N (out), N11 XIOCS_N[1] (out), N12 XIOCS_N[3] (out)
part D pins: B11 TCK (in), B12 TDO (out), B13 nTRST (in), C10 TMS (in), C13 TDI (in)
part E pins: A12 PLLGND (power), A13 PLLVDD (power), B5 GND (power), B6 AGND (power), B9 VDD_IO (power), B10 GND (power), C5 VDD_CORE (power), C8 AVDD (power), D3 VDD_IO (power), D4 GND (power), D5 VDD_IO (power), E4 GND (power), F4 GND (power), G4 VDD_IO (power), G10 GND (power), G11 VDD_IO (power), H4 VDD_CORE (power), H10 VDD_CORE (power), J4 VDD_IO (power), J12 GND (power), K5 GND (power), K6 GND (power), K7 VDD_IO (power), K8 VDD_CORE (power), K9 VDD_IO (power), K10 GND (power), K11 VDD_IO (power), L1 GND (power), L4 VDD_IO (power)

## ML675001TC
designator U?
ARM7TDMI 32-Bit Microcontroller, ROM-less, ?144-pin LQFP; Published: 12-Dec-2006; DatasheetVersion: rev2.0, Apr-2004; PackageVersion: rev5, Nov-1996; PackageReference: LQFP144-P-2020-0.50-K; Publisher: Altium Limited; PackageDescription: 144-Pin Plastic Shrink Quad Flat Pack 0.5 mm Pitch; Code_IPC: SQFP50P2200X2200-144; ComponentLink1Description: Manufacturer Link; ComponentLink1URL: http://www2.okisemi.com/; ComponentLink2Description: Datasheet; ComponentLink2URL: http://www2.okisemi.com/site/datasheets/ML675001_2_3_DS.pdf
footprint LQFP144-P-2020-0.50-K_N (Shrink QFP, 144-Leads, Body 20x20mm, Pitch 0.5mm, IPC Medium Density)
footprint LQFP144-P-2020-0.50-K_L (Shrink QFP, 144-Leads, Body 20x20mm, Pitch 0.5mm, IPC High Density)
footprint LQFP144-P-2020-0.50-K_M (Shrink QFP, 144-Leads, Body 20x20mm, Pitch 0.5mm, IPC Low Density)
part A pins: 2 PIOB[7]/SRXD (io), 53 PIOC[2]/XA[19] (io), 55 PIOC[3]/XA[20] (io), 56 PIOC[4]/XA[21] (io), 57 PIOC[5]/XA[22] (io), 59 PIOC[6]/XA[23] (io), 60 PIOC[7]/XWR (io), 73 PIOD[6]/XDQM[1]/XCAS_N[1] (io), 74 PIOD[7]/XDQM[0]/XCAS_N[0] (io), 75 PIOB[0]/DREQ[0] (io), 76 PIOB[1]/DREQCLR[0] (io), 78 PIOB[2]/DREQ[1] (io), 79 PIOB[3]/DREQCLR[1] (io), 80 PIOB[4]/TCOUT[0] (io), 81 PIOB[5]/TCOUT[1] (io), 82 PIOC[0]/PWMOUT[0] (io), 83 PIOC[1]/PWMOUT[1] (io), 88 PIOD[0]/XWAIT (io), 89 PIOD[1]/XCAS_N (io), 92 PIOD[2]/XRAS_N (io), 93 PIOD[3]/XSDCLK (io), 94 PIOD[4]/XSDCS_N (io), 95 PIOD[5]/XSDCKE (io), 98 PIOE[5]/EXINT[0] (io), 99 PIOE[6]/EXINT[1] (io), 100 PIOE[7]/EXINT[2] (io), 101 PIOE[8]/EXINT[3] (io), 102 PIOE[9]/EFIQ_N (io), 103 PIOE[0]/SCLK (io), 104 PIOE[1]/SDI (io), 105 PIOE[2]/SDO (io), 122 PIOA[0]/SIN (io), 123 PIOA[1]/SOUT (io), 133 PIOA[2]/CTS (io), 135 PIOA[3]/DSR (io), 136 PIOA[4]/DCD (io), 138 PIOA[5]/DTR (io), 139 PIOA[6]/RTS (io), 140 PIOA[7]/RI (io), 142 PIOE[3]/SDA (io), 143 PIOE[4]/SCL (io), 144 PIOB[6]/STXD (io)
part B pins: 6 XD[0] (io), 7 XD[1] (io), 8 XD[2] (io), 9 XD[3] (io), 10 XD[4] (io), 13 XD[5] (io), 14 XD[6] (io), 16 XD[7] (io), 19 XD[8] (io), 20 XD[9] (io), 21 XD[10] (io), 24 XD[11] (io), 25 XD[12] (io), 27 XD[13] (io), 28 XD[14] (io), 29 XD[15] (io), 30 XA[0] (out), 31 XA[1] (out), 32 XA[2] (out), 33 XA[3] (out), 35 XA[4] (out), 36 XA[5] (out), 37 XA[6] (out), 38 XA[7] (out), 39 XA[8] (out), 40 XA[9] (out), 42 XA[10] (out), 43 XA[11] (out), 44 XA[12] (out), 45 XA[13] (out), 46 XA[14] (out), 48 XA[15] (out), 49 XA[16] (out), 50 XA[17] (out), 52 XA[18] (out)
part C pins: 1 TEST1 (in), 3 FWR (in), 4 RESET_N (in), 12 CLKMD0 (in), 17 CLKMD1 (in), 23 NC, 61 XOE_N (out), 63 XWE_N (out), 64 XBWE_N[0] (out), 65 XBWE_N[1] (out), 66 XROMCS_N (out), 67 XRAMCS_N (out), 68 XIOCS_N[0] (out), 70 XIOCS_N[1] (out), 71 XIOCS_N[2] (out), 72 XIOCS_N[3] (out), 85 XBS_N[0] (out), 86 XBS_N[1] (out), 96 BSEL[0] (in), 97 BSEL[1] (in), 111 CKO (out), 112 JSEL (in), 115 DRAME_N (in), 116 CKOE_N (in), 118 OSC0, 119 OSC1_N, 121 TEST (in), 125 VREFP (in), 126 AIN[0] (in), 127 AIN[1] (in), 128 AIN[2] (in), 129 AIN[3] (in), 130 VREFN (power)
part D pins: 106 TDI (in), 107 TDO (out), 108 nTRST (in), 113 TMS (in), 114 TCK (in)
part E pins: 5 VDD_IO (power), 11 GND (power), 15 GND (power), 18 VDD_IO (power), 22 VDD_CORE (power), 26 VDD_IO (power), 34 GND (power), 41 VDD_IO (power), 47 GND (power), 51 GND (power), 54 VDD_IO (power), 58 VDD_CORE (power), 62 VDD_IO (power), 69 GND (power), 77 VDD_IO (power), 84 GND (power), 87 VDD_CORE (power), 90 GND (power), 91 VDD_IO (power), 109 PLLVDD (power), 110 PLLGND (power), 117 GND (power), 120 VDD_IO (power), 124 AVDD (power), 131 AGND (power), 132 GND (power), 134 VDD_IO (power), 137 VDD_CORE (power), 141 GND (power)

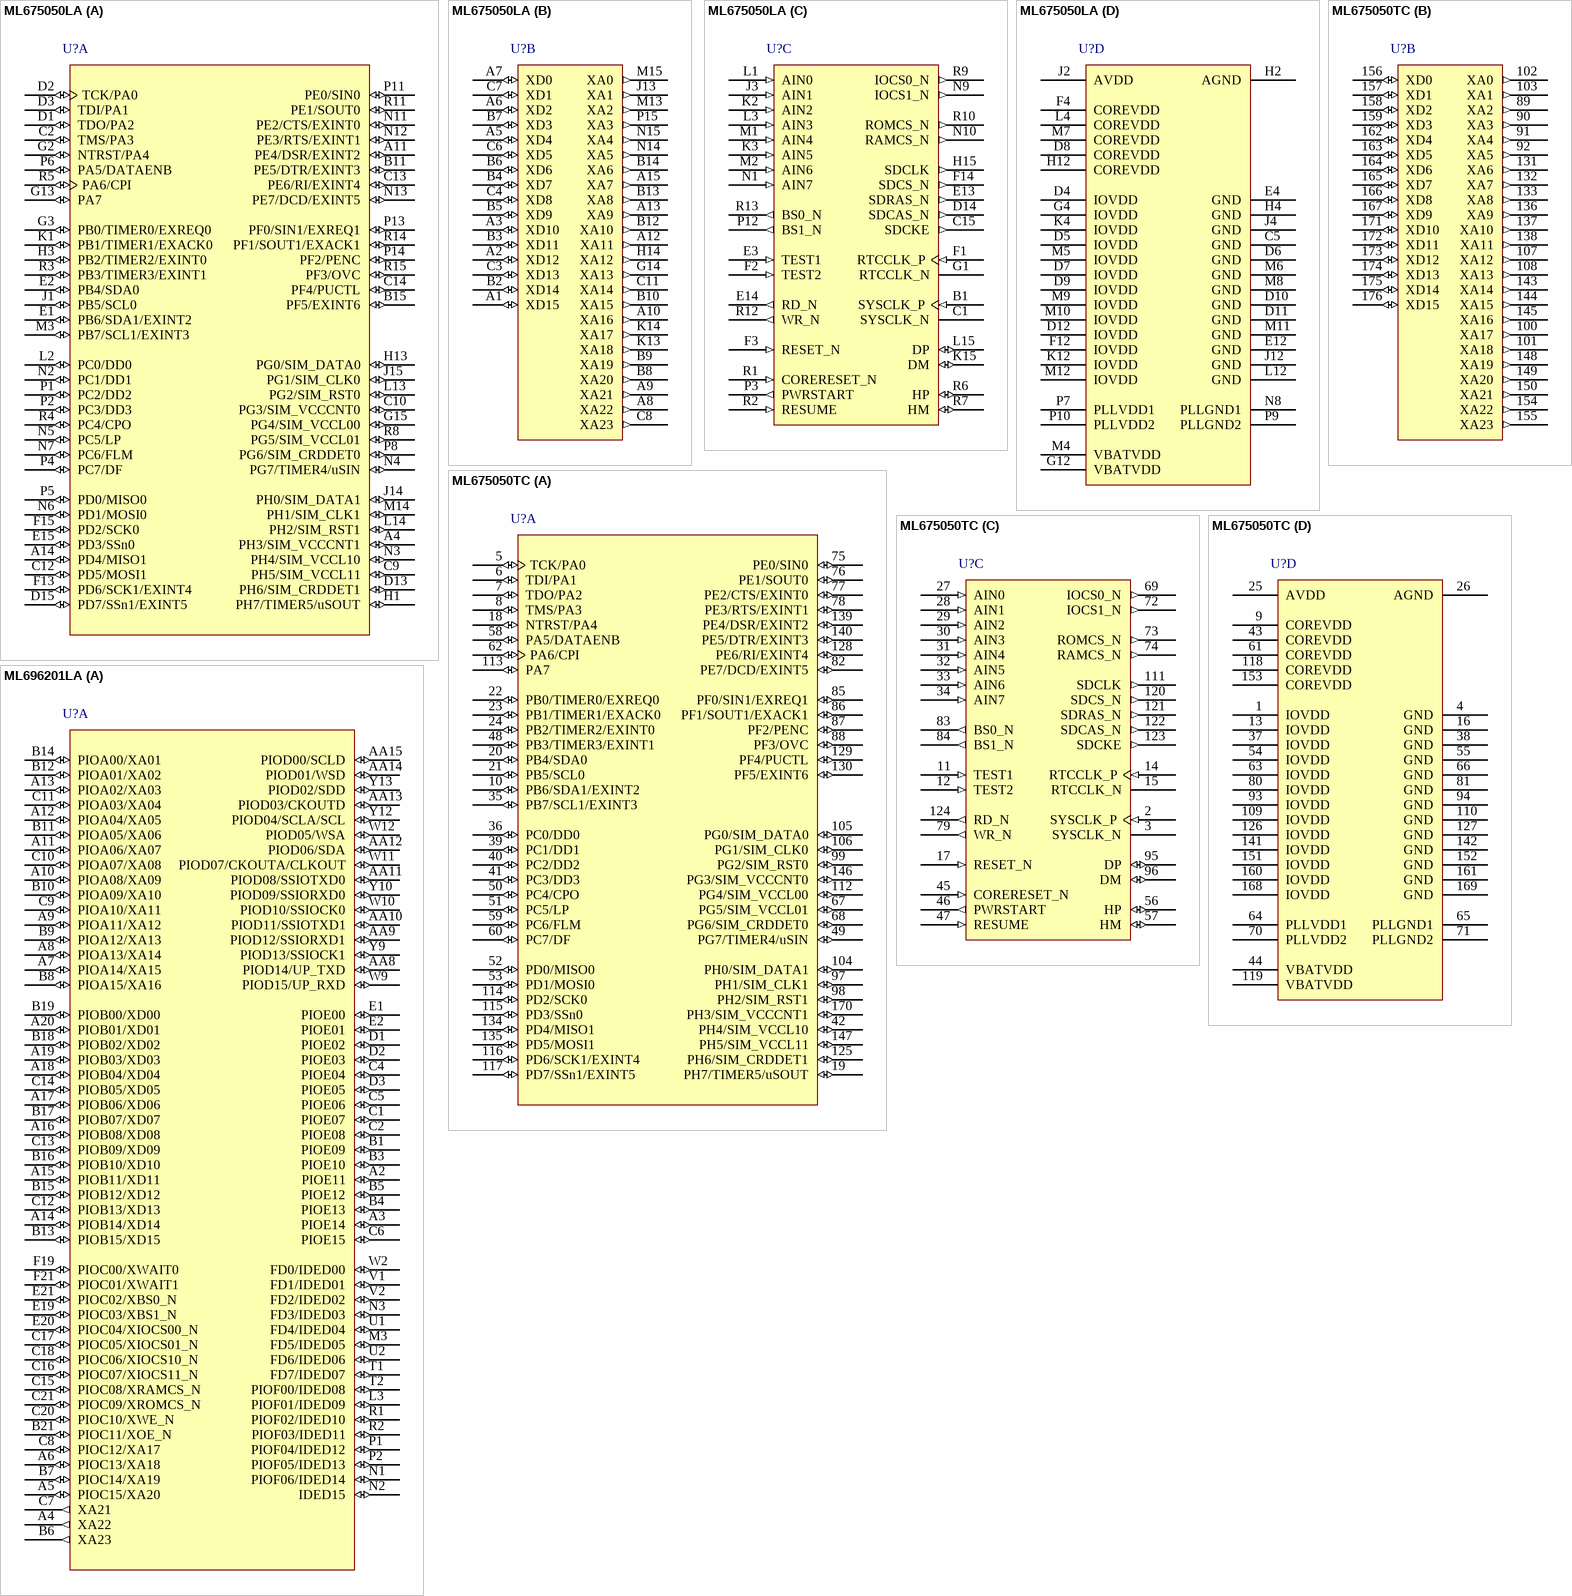
[diagram p8: symbols ML675050LA to ML696201LA]

## ML675050LA
designator U?
ARM7TDMI 32-Bit Microcontroller, 16KB SRAM, 84-pin LFBGA; Published: 12-Dec-2006; DatasheetVersion: rev1.1, Mar-2006; PackageVersion: rev2; PackageReference: P-LFBGA-1313-0.80-2; Publisher: Altium Limited; PackageDescription: 176-Ball Ball Grid Array 0.8 mm Pitch; ComponentLink1Description: Manufacturer Link; ComponentLink1URL: http://www2.okisemi.com/; ComponentLink2Description: Datasheet; ComponentLink2URL: http://www2.okisemi.com/site/datasheets/ML675050_DS
footprint P-LFBGA-1313-0.80-2 (BGA, 176-Leads, Body 13x13mm, Pitch 0.8mm)
part A pins: A4 PH3/SIM_VCCCNT1 (io), A11 PE4/DSR/EXINT2 (io), A14 PD4/MISO1 (io), B11 PE5/DTR/EXINT3 (io), B15 PF5/EXINT6 (io), C2 TMS/PA3 (io), C9 PH5/SIM_VCCL11 (io), C10 PG3/SIM_VCCCNT0 (io), C12 PD5/MOSI1 (io), C13 PE6/RI/EXINT4 (io), C14 PF4/PUCTL (io), D1 TDO/PA2 (io), D2 TCK/PA0 (io), D3 TDI/PA1 (io), D13 PH6/SIM_CRDDET1 (io), D15 PD7/SSn1/EXINT5 (io), E1 PB6/SDA1/EXINT2 (io), E2 PB4/SDA0 (io), E15 PD3/SSn0 (io), F13 PD6/SCK1/EXINT4 (io), F15 PD2/SCK0 (io), G2 NTRST/PA4 (io), G3 PB0/TIMER0/EXREQ0 (io), G13 PA7 (io), G15 PG4/SIM_VCCL00 (io), H1 PH7/TIMER5/uSOUT (io), H3 PB2/TIMER2/EXINT0 (io), H13 PG0/SIM_DATA0 (io), J1 PB5/SCL0 (io), J14 PH0/SIM_DATA1 (io), J15 PG1/SIM_CLK0 (io), K1 PB1/TIMER1/EXACK0 (io), L2 PC0/DD0 (io), L13 PG2/SIM_RST0 (io), L14 PH2/SIM_RST1 (io), M3 PB7/SCL1/EXINT3 (io), M14 PH1/SIM_CLK1 (io), N2 PC1/DD1 (io), N3 PH4/SIM_VCCL10 (io), N4 PG7/TIMER4/uSIN (io), N5 PC5/LP (io), N6 PD1/MOSI0 (io), N7 PC6/FLM (io), N11 PE2/CTS/EXINT0 (io), N12 PE3/RTS/EXINT1 (io), N13 PE7/DCD/EXINT5 (io), P1 PC2/DD2 (io), P2 PC3/DD3 (io), P4 PC7/DF (io), P5 PD0/MISO0 (io), P6 PA5/DATAENB (io), P8 PG6/SIM_CRDDET0 (io), P11 PE0/SIN0 (io), P13 PF0/SIN1/EXREQ1 (io), P14 PF2/PENC (io), R3 PB3/TIMER3/EXINT1 (io), R4 PC4/CPO (io), R5 PA6/CPI (io), R8 PG5/SIM_VCCL01 (io), R11 PE1/SOUT0 (io), R14 PF1/SOUT1/EXACK1 (io), R15 PF3/OVC (io)
part B pins: A1 XD15 (io), A2 XD12 (io), A3 XD10 (io), A5 XD4 (io), A6 XD2 (io), A7 XD0 (io), A8 XA22 (out), A9 XA21 (out), A10 XA16 (out), A12 XA11 (out), A13 XA9 (out), A15 XA7 (out), B2 XD14 (io), B3 XD11 (io), B4 XD7 (io), B5 XD9 (io), B6 XD6 (io), B7 XD3 (io), B8 XA20 (out), B9 XA19 (out), B10 XA15 (out), B12 XA10 (out), B13 XA8 (out), B14 XA6 (out), C3 XD13 (io), C4 XD8 (io), C6 XD5 (io), C7 XD1 (io), C8 XA23 (out), C11 XA14 (out), G14 XA13 (out), H14 XA12 (out), J13 XA1 (out), K13 XA18 (out), K14 XA17 (out), M13 XA2 (out), M15 XA0 (out), N14 XA5 (out), N15 XA4 (out), P15 XA3 (out)
part C pins: B1 SYSCLK_P (in), C1 SYSCLK_N, C15 SDCKE (out), D14 SDCAS_N (out), E3 TEST1 (in), E13 SDRAS_N (out), E14 RD_N (out), F1 RTCCLK_P (in), F2 TEST2 (in), F3 RESET_N (in), F14 SDCS_N (out), G1 RTCCLK_N, H15 SDCLK (out), J3 AIN1 (in), K2 AIN2 (in), K3 AIN5 (in), K15 DM (io), L1 AIN0 (in), L3 AIN3 (in), L15 DP (io), M1 AIN4 (in), M2 AIN6 (in), N1 AIN7 (in), N9 IOCS1_N (out), N10 RAMCS_N (out), P3 PWRSTART (out), P12 BS1_N (out), R1 CORERESET_N (in), R2 RESUME (in), R6 HP (io), R7 HM (io), R9 IOCS0_N (out), R10 ROMCS_N (out), R12 WR_N (out), R13 BS0_N (out)
part D pins: C5 GND (power), D4 IOVDD (power), D5 IOVDD (power), D6 GND (power), D7 IOVDD (power), D8 COREVDD (power), D9 IOVDD (power), D10 GND (power), D11 GND (power), D12 IOVDD (power), E4 GND (power), E12 GND (power), F4 COREVDD (power), F12 IOVDD (power), G4 IOVDD (power), G12 VBATVDD (power), H2 AGND (power), H4 GND (power), H12 COREVDD (power), J2 AVDD (power), J4 GND (power), J12 GND (power), K4 IOVDD (power), K12 IOVDD (power), L4 COREVDD (power), L12 GND (power), M4 VBATVDD (power), M5 IOVDD (power), M6 GND (power), M7 COREVDD (power), M8 GND (power), M9 IOVDD (power), M10 IOVDD (power), M11 GND (power), M12 IOVDD (power), N8 PLLGND1 (power), P7 PLLVDD1 (power), P9 PLLGND2 (power), P10 PLLVDD2 (power)

## ML675050TC
designator U?
ARM7TDMI 32-Bit Microcontroller, 16KB SRAM, 144-pin LQFP; Published: 12-Dec-2006; DatasheetVersion: rev1.1, Mar-2006; PackageVersion: rev1, Jan-2006; PackageReference: LQFP176-P-2424-0.50-ZK; Publisher: Altium Limited; PackageDescription: 176-Pin Shrink Quad Flat Pack 0.5 mm Pitch; Code_IPC: SQFP50P2600X2600-176; ComponentLink1Description: Manufacturer Link; ComponentLink1URL: http://www2.okisemi.com/; ComponentLink2Description: Datasheet; ComponentLink2URL: http://www2.okisemi.com/site/datasheets/ML675050_DS
footprint LQFP176-P-2424-0.50-ZK_N (Shrink QFP, 176-Leads, Body 24x24mm, Pitch 0.5mm, IPC Medium Density)
footprint LQFP176-P-2424-0.50-ZK_L (Shrink QFP, 176-Leads, Body 24x24mm, Pitch 0.5mm, IPC High Density)
footprint LQFP176-P-2424-0.50-ZK_M (Shrink QFP, 176-Leads, Body 24x24mm, Pitch 0.5mm, IPC Low Density)
part A pins: 5 TCK/PA0 (io), 6 TDI/PA1 (io), 7 TDO/PA2 (io), 8 TMS/PA3 (io), 10 PB6/SDA1/EXINT2 (io), 18 NTRST/PA4 (io), 19 PH7/TIMER5/uSOUT (io), 20 PB4/SDA0 (io), 21 PB5/SCL0 (io), 22 PB0/TIMER0/EXREQ0 (io), 23 PB1/TIMER1/EXACK0 (io), 24 PB2/TIMER2/EXINT0 (io), 35 PB7/SCL1/EXINT3 (io), 36 PC0/DD0 (io), 39 PC1/DD1 (io), 40 PC2/DD2 (io), 41 PC3/DD3 (io), 42 PH4/SIM_VCCL10 (io), 48 PB3/TIMER3/EXINT1 (io), 49 PG7/TIMER4/uSIN (io), 50 PC4/CPO (io), 51 PC5/LP (io), 52 PD0/MISO0 (io), 53 PD1/MOSI0 (io), 58 PA5/DATAENB (io), 59 PC6/FLM (io), 60 PC7/DF (io), 62 PA6/CPI (io), 67 PG5/SIM_VCCL01 (io), 68 PG6/SIM_CRDDET0 (io), 75 PE0/SIN0 (io), 76 PE1/SOUT0 (io), 77 PE2/CTS/EXINT0 (io), 78 PE3/RTS/EXINT1 (io), 82 PE7/DCD/EXINT5 (io), 85 PF0/SIN1/EXREQ1 (io), 86 PF1/SOUT1/EXACK1 (io), 87 PF2/PENC (io), 88 PF3/OVC (io), 97 PH1/SIM_CLK1 (io), 98 PH2/SIM_RST1 (io), 99 PG2/SIM_RST0 (io), 104 PH0/SIM_DATA1 (io), 105 PG0/SIM_DATA0 (io), 106 PG1/SIM_CLK0 (io), 112 PG4/SIM_VCCL00 (io), 113 PA7 (io), 114 PD2/SCK0 (io), 115 PD3/SSn0 (io), 116 PD6/SCK1/EXINT4 (io), 117 PD7/SSn1/EXINT5 (io), 125 PH6/SIM_CRDDET1 (io), 128 PE6/RI/EXINT4 (io), 129 PF4/PUCTL (io), 130 PF5/EXINT6 (io), 134 PD4/MISO1 (io), 135 PD5/MOSI1 (io), 139 PE4/DSR/EXINT2 (io), 140 PE5/DTR/EXINT3 (io), 146 PG3/SIM_VCCCNT0 (io), 147 PH5/SIM_VCCL11 (io), 170 PH3/SIM_VCCCNT1 (io)
part B pins: 89 XA2 (out), 90 XA3 (out), 91 XA4 (out), 92 XA5 (out), 100 XA17 (out), 101 XA18 (out), 102 XA0 (out), 103 XA1 (out), 107 XA12 (out), 108 XA13 (out), 131 XA6 (out), 132 XA7 (out), 133 XA8 (out), 136 XA9 (out), 137 XA10 (out), 138 XA11 (out), 143 XA14 (out), 144 XA15 (out), 145 XA16 (out), 148 XA19 (out), 149 XA20 (out), 150 XA21 (out), 154 XA22 (out), 155 XA23 (out), 156 XD0 (io), 157 XD1 (io), 158 XD2 (io), 159 XD3 (io), 162 XD4 (io), 163 XD5 (io), 164 XD6 (io), 165 XD7 (io), 166 XD8 (io), 167 XD9 (io), 171 XD10 (io), 172 XD11 (io), 173 XD12 (io), 174 XD13 (io), 175 XD14 (io), 176 XD15 (io)
part C pins: 2 SYSCLK_P (in), 3 SYSCLK_N, 11 TEST1 (in), 12 TEST2 (in), 14 RTCCLK_P (in), 15 RTCCLK_N, 17 RESET_N (in), 27 AIN0 (in), 28 AIN1 (in), 29 AIN2 (in), 30 AIN3 (in), 31 AIN4 (in), 32 AIN5 (in), 33 AIN6 (in), 34 AIN7 (in), 45 CORERESET_N (in), 46 PWRSTART (out), 47 RESUME (in), 56 HP (io), 57 HM (io), 69 IOCS0_N (out), 72 IOCS1_N (out), 73 ROMCS_N (out), 74 RAMCS_N (out), 79 WR_N (out), 83 BS0_N (out), 84 BS1_N (out), 95 DP (io), 96 DM (io), 111 SDCLK (out), 120 SDCS_N (out), 121 SDRAS_N (out), 122 SDCAS_N (out), 123 SDCKE (out), 124 RD_N (out)
part D pins: 1 IOVDD (power), 4 GND (power), 9 COREVDD (power), 13 IOVDD (power), 16 GND (power), 25 AVDD (power), 26 AGND (power), 37 IOVDD (power), 38 GND (power), 43 COREVDD (power), 44 VBATVDD (power), 54 IOVDD (power), 55 GND (power), 61 COREVDD (power), 63 IOVDD (power), 64 PLLVDD1 (power), 65 PLLGND1 (power), 66 GND (power), 70 PLLVDD2 (power), 71 PLLGND2 (power), 80 IOVDD (power), 81 GND (power), 93 IOVDD (power), 94 GND (power), 109 IOVDD (power), 110 GND (power), 118 COREVDD (power), 119 VBATVDD (power), 126 IOVDD (power), 127 GND (power), 141 IOVDD (power), 142 GND (power), 151 IOVDD (power), 152 GND (power), 153 COREVDD (power), 160 IOVDD (power), 161 GND (power), 168 IOVDD (power), 169 GND (power)

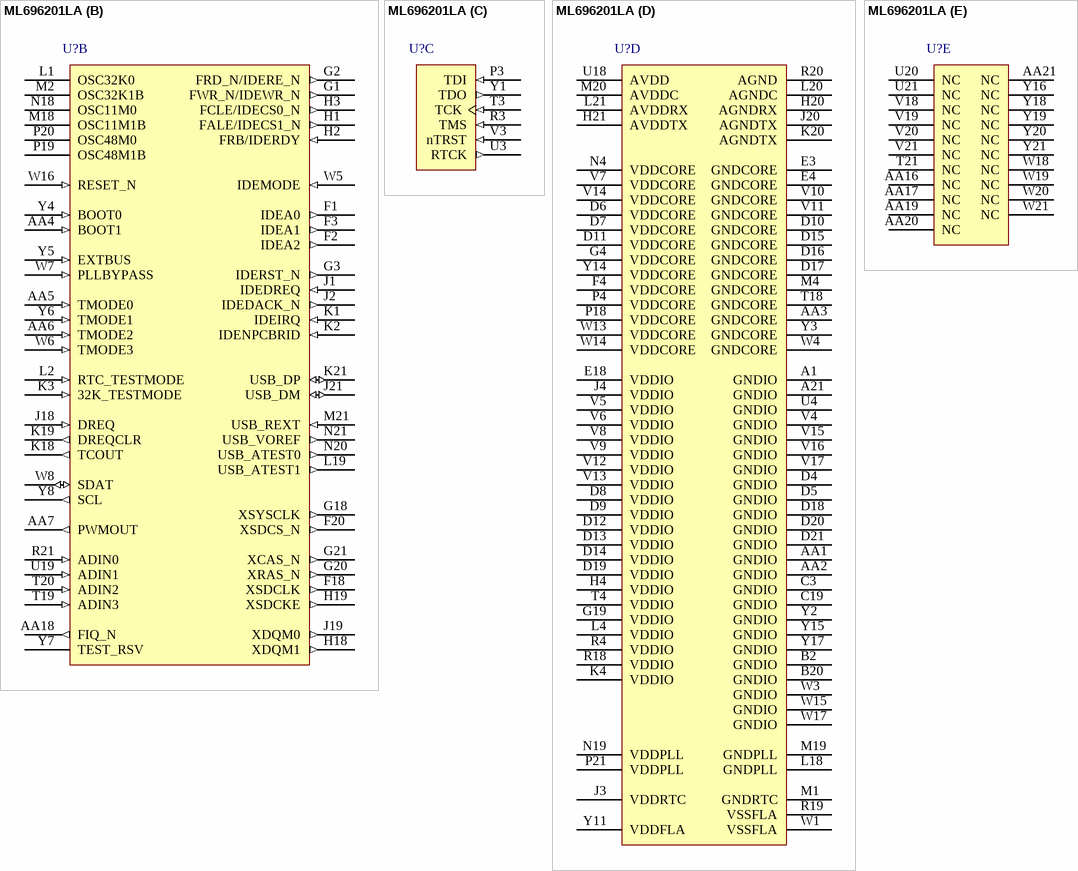
[diagram p9: symbol ML696201LA]

## ML696201LA
designator U?
ARM7TDMI 32-Bit Microcontroller, ROM-less, 272-pin LFBGA; Published: 12-Dec-2006; DatasheetVersion: rev1.1, Jan-2005; PackageVersion: rev1, May-2004; PackageReference: P-LFBGA272-1515-0.65-MC-1; Publisher: Altium Limited; PackageDescription: 272-Ball Ball Grid Array 0.65 mm Pitch; ComponentLink1Description: Manufacturer Link; ComponentLink1URL: http://www2.okisemi.com/; ComponentLink2Description: Datasheet; ComponentLink2URL: http://www2.okisemi.com/site/datasheets/ml696200ds
footprint P-LFBGA272-1515-0.65-MC-1 (BGA, 272-Leads, Body 15x15mm, Pitch 0.65mm)
part A pins: A2 PIOE11 (io), A3 PIOE14 (io), A4 XA22 (out), A5 PIOC15/XA20 (io), A6 PIOC13/XA18 (io), A7 PIOA14/XA15 (io), A8 PIOA13/XA14 (io), A9 PIOA11/XA12 (io), A10 PIOA08/XA09 (io), A11 PIOA06/XA07 (io), A12 PIOA04/XA05 (io), A13 PIOA02/XA03 (io), A14 PIOB14/XD14 (io), A15 PIOB11/XD11 (io), A16 PIOB08/XD08 (io), A17 PIOB06/XD06 (io), A18 PIOB04/XD04 (io), A19 PIOB03/XD03 (io), A20 PIOB01/XD01 (io), AA8 PIOD14/UP_TXD (io), AA9 PIOD12/SSIORXD1 (io), AA10 PIOD11/SSIOTXD1 (io), AA11 PIOD08/SSIOTXD0 (io), AA12 PIOD06/SDA (io), AA13 PIOD03/CKOUTD (io), AA14 PIOD01/WSD (io), AA15 PIOD00/SCLD (io), B1 PIOE09 (io), B3 PIOE10 (io), B4 PIOE13 (io), B5 PIOE12 (io), B6 XA23 (out), B7 PIOC14/XA19 (io), B8 PIOA15/XA16 (io), B9 PIOA12/XA13 (io), B10 PIOA09/XA10 (io), B11 PIOA05/XA06 (io), B12 PIOA01/XA02 (io), B13 PIOB15/XD15 (io), B14 PIOA00/XA01 (io), B15 PIOB12/XD12 (io), B16 PIOB10/XD10 (io), B17 PIOB07/XD07 (io), B18 PIOB02/XD02 (io), B19 PIOB00/XD00 (io), B21 PIOC11/XOE_N (io), C1 PIOE07 (io), C2 PIOE08 (io), C4 PIOE04 (io), C5 PIOE06 (io), C6 PIOE15 (io), C7 XA21 (out), C8 PIOC12/XA17 (io), C9 PIOA10/XA11 (io), C10 PIOA07/XA08 (io), C11 PIOA03/XA04 (io), C12 PIOB13/XD13 (io), C13 PIOB09/XD09 (io), C14 PIOB05/XD05 (io), C15 PIOC08/XRAMCS_N (io), C16 PIOC07/XIOCS11_N (io), C17 PIOC05/XIOCS01_N (io), C18 PIOC06/XIOCS10_N (io), C20 PIOC10/XWE_N (io), C21 PIOC09/XROMCS_N (io), D1 PIOE02 (io), D2 PIOE03 (io), D3 PIOE05 (io), E1 PIOE00 (io), E2 PIOE01 (io), E19 PIOC03/XBS1_N (io), E20 PIOC04/XIOCS00_N (io), E21 PIOC02/XBS0_N (io), F19 PIOC00/XWAIT0 (io), F21 PIOC01/XWAIT1 (io), L3 PIOF01/IDED09 (io), M3 FD5/IDED05 (io) "NAND Flash data", N1 PIOF06/IDED14 (io), N2 IDED15 (io), N3 FD3/IDED03 (io) "NAND Flash data", P1 PIOF04/IDED12 (io), P2 PIOF05/IDED13 (io), R1 PIOF02/IDED10 (io), R2 PIOF03/IDED11 (io), T1 FD7/IDED07 (io) "NAND Flash data", T2 PIOF00/IDED08 (io), U1 FD4/IDED04 (io) "NAND Flash data", U2 FD6/IDED06 (io) "NAND Flash data", V1 FD1/IDED01 (io) "NAND Flash data", V2 FD2/IDED02 (io) "NAND Flash data", W2 FD0/IDED00 (io) "NAND Flash data", W9 PIOD15/UP_RXD (io), W10 PIOD10/SSIOCK0 (io), W11 PIOD07/CKOUTA/CLKOUT (io), W12 PIOD05/WSA (io), Y9 PIOD13/SSIOCK1 (io), Y10 PIOD09/SSIORXD0 (io), Y12 PIOD04/SCLA/SCL (io), Y13 PIOD02/SDD (io)
part B pins: AA4 BOOT1 (in), AA5 TMODE0 (in), AA6 TMODE2 (in), AA7 PWMOUT (out), AA18 FIQ_N (out) "fast int", F1 IDEA0 (out) "ide controller", F2 IDEA2 (out) "ide controller", F3 IDEA1 (out) "ide controller", F18 XSDCLK (out), F20 XSDCS_N (out), G1 FWR_N/IDEWR_N (out) "nand flash", G2 FRD_N/IDERE_N (out) "nand flash", G3 IDERST_N (out) "ide controller", G18 XSYSCLK (out), G20 XRAS_N (out), G21 XCAS_N (out), H1 FALE/IDECS1_N (out) "nand flash", H2 FRB/IDERDY (in) "NAND Flash ready/busy (1 = ready, 0 = busy)", H3 FCLE/IDECS0_N (out) "nand flash", H18 XDQM1 (out), H19 XSDCKE (out), J1 IDEDREQ (in), J2 IDEDACK_N (out) "ide controller", J18 DREQ (in) "DMA request signal, used if DREEQ type is set by DMA controller", J19 XDQM0 (out), J21 USB_DM (io), K1 IDEIRQ (in), K2 IDENPCBRID (in), K3 32K_TESTMODE (in) "This pin switches the test mode pin of a 32-kHz oscillator circuit.", K18 TCOUT (out) "dma control", K19 DREQCLR (out) "DREQ signal clear request./ dma control", K21 USB_DP (io), L1 OSC32K0, L2 RTC_TESTMODE (in) "This pin switches the Scan mode pin of the RTC section.", L19 USB_ATEST1 (out), M2 OSC32K1B, M18 OSC11M1B, M21 USB_REXT (in), N18 OSC11M0, N20 USB_ATEST0 (out), N21 USB_VOREF (out), P19 OSC48M1B, P20 OSC48M0, R21 ADIN0 (in) "ADC input (CH3/2/1/0)", T19 ADIN3 (in) "ADC input (CH3/2/1/0)", T20 ADIN2 (in) "ADC input (CH3/2/1/0)", U19 ADIN1 (in) "ADC input (CH3/2/1/0)", W5 IDEMODE (in), W6 TMODE3 (in), W7 PLLBYPASS (in), W8 SDAT (io) "I2C transmit/receive data", W16 RESET_N (in), Y4 BOOT0 (in), Y5 EXTBUS (in) "switch between bus/gpio", Y6 TMODE1 (in), Y7 TEST_RSV, Y8 SCL (out) "I2C clock output"
part C pins: P3 TDI (in), R3 TMS (in), T3 TCK (in), U3 RTCK (out), V3 nTRST (in), Y1 TDO (out)
part D pins: A1 GNDIO (power), A21 GNDIO (power), AA1 GNDIO (power), AA2 GNDIO (power), AA3 GNDCORE (power), B2 GNDIO (power), B20 GNDIO (power), C3 GNDIO (power), C19 GNDIO (power), D4 GNDIO (power), D5 GNDIO (power), D6 VDDCORE (power), D7 VDDCORE (power), D8 VDDIO (power), D9 VDDIO (power), D10 GNDCORE (power), D11 VDDCORE (power), D12 VDDIO (power), D13 VDDIO (power), D14 VDDIO (power), D15 GNDCORE (power), D16 GNDCORE (power), D17 GNDCORE (power), D18 GNDIO (power), D19 VDDIO (power), D20 GNDIO (power), D21 GNDIO (power), E3 GNDCORE (power), E4 GNDCORE (power), E18 VDDIO (power), F4 VDDCORE (power), G4 VDDCORE (power), G19 VDDIO (power), H4 VDDIO (power), H20 AGNDRX (power), H21 AVDDTX (power), J3 VDDRTC (power), J4 VDDIO (power), J20 AGNDTX (power), K4 VDDIO (power), K20 AGNDTX (power), L4 VDDIO (power), L18 GNDPLL (power), L20 AGNDC (power), L21 AVDDRX (power), M1 GNDRTC (power), M4 GNDCORE (power), M19 GNDPLL (power), M20 AVDDC (power), N4 VDDCORE (power), N19 VDDPLL (power), P4 VDDCORE (power), P18 VDDCORE (power), P21 VDDPLL (power), R4 VDDIO (power), R18 VDDIO (power), R19 VSSFLA (power), R20 AGND (power), T4 VDDIO (power), T18 GNDCORE (power), U4 GNDIO (power), U18 AVDD (power), V4 GNDIO (power), V5 VDDIO (power), V6 VDDIO (power), V7 VDDCORE (power), V8 VDDIO (power), V9 VDDIO (power), V10 GNDCORE (power), V11 GNDCORE (power), V12 VDDIO (power), V13 VDDIO (power), V14 VDDCORE (power), V15 GNDIO (power), V16 GNDIO (power), V17 GNDIO (power), W1 VSSFLA (power), W3 GNDIO (power), W4 GNDCORE (power), W13 VDDCORE (power), W14 VDDCORE (power), W15 GNDIO (power), W17 GNDIO (power), Y2 GNDIO (power), Y3 GNDCORE (power), Y11 VDDFLA (power), Y14 VDDCORE (power), Y15 GNDIO (power), Y17 GNDIO (power)
part E pins: AA16 NC, AA17 NC, AA19 NC, AA20 NC, AA21 NC, T21 NC, U20 NC, U21 NC, V18 NC, V19 NC, V20 NC, V21 NC, W18 NC, W19 NC, W20 NC, W21 NC, Y16 NC, Y18 NC, Y19 NC, Y20 NC, Y21 NC